# Altium footprint library PcbLib1.PcbLib: 4 footprints
Each footprint in its own frame and in the unit in brackets; x right, y up, seen from the top. Pads: shape width x height; smd on the part's side, far side on the other; paste and mask are expansions set on the pad; w line width, h text height; cw(c..) or ccw(c..) is an arc to the next point about the centre after c.
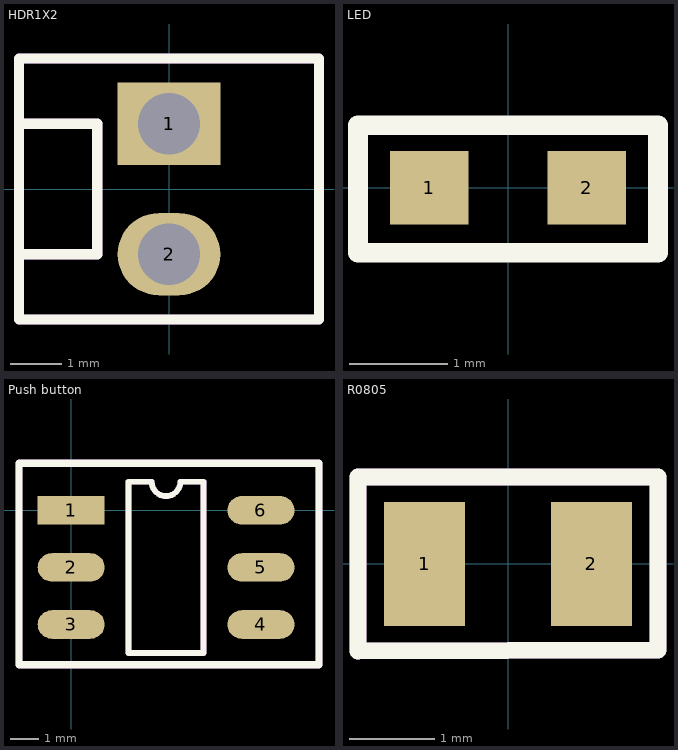
[diagram p0: the footprints below, top view; thin cyan lines are the x and y axes]

## HDR1X2 [mm]
pads (2):
  rect 2x1.6 hole 1.2: 1(0,1.27)
  oval 2x1.6 hole 1.2: 2(0,-1.27)
Top Overlay:
  lines w0.2: -2.921,-1.27 -1.397,-1.27 -1.397,1.27 -2.921,1.27 ; -2.921,-2.54 -2.921,2.54 2.921,2.54 2.921,-2.54 -2.921,-2.54
Mechanical 29:
  lines w0.2: -2.921,-1.27 -1.397,-1.27 -1.397,1.27 -2.921,1.27 ; -2.921,-2.54 -2.921,2.54 2.921,2.54 2.921,-2.54 -2.921,-2.54
  text ".Designator" at -4.14,3.2 h1.52
3D body "022292021.stp": height 11.9, standoff -3.36, extent -2.9,-2.54 2.9,2.54

## LED [mm]
pads (2):
  rect 0.8x0.75 smd: 1(-0.8,0) 2(0.8,0)
Top Overlay:
  lines w0.2: -1.524,-0.66 -1.524,0.635 1.524,0.635 1.524,-0.66 -1.524,-0.66
3D body "Download_STP_WL-WL-SMCD-0603_rev1.stp": height 0.4, standoff 0, extent -0.8,-0.4 0.8,0.4

## Push button [mm]
pads (6):
  rect 2.35x1 smd: 1(0,0)
  oval 2.35x1 smd: 2(0,-2) 3(0,-4) 4(6.65,-4) 5(6.65,-2) 6(6.65,0)
Top Overlay:
  lines w0.2: 2.01,-5 4.64,-5 4.64,1 3.825,1 cw(c3.325,1) 2.825,1 2.01,1 2.01,-5
  lines w0.254: -1.829,-5.41 8.687,-5.41 8.687,1.651 -1.829,1.651 -1.829,-5.41
Mechanical 29:
  lines w0.2: 2.01,-5 4.64,-5 4.64,1 3.825,1 cw(c3.325,1) 2.825,1 2.01,1 2.01,-5
  lines w0.254: -1.829,-5.41 8.687,-5.41 8.687,1.651 -1.829,1.651 -1.829,-5.41
  text ".Designator" at -2.845,2.591 h1.52
3D body "TL2233OA.stp": height 7.9, standoff 0, extent -0.622,-4.881 7.378,0.919

## R0805 [mm]
pads (2):
  rect 0.95x1.45 smd: 1(-0.975,0) 2(0.975,0)
Top Overlay:
  lines w0.2: -1.753,-1.018 1.753,-1.008 ; -1.753,-1.018 -1.753,1.016 ; -1.753,-1.018 1.753,-1.008 ; -1.753,-1.018 -1.753,1.016 ; -1.753,-1.018 1.753,-1.008 ; -1.753,-1.018 1.753,-1.008 ; -1.753,-1.018 -1.753,1.016 ; -1.753,1.016 1.753,1.016 ; -1.753,1.016 1.753,1.016 ; -1.753,1.016 1.753,1.016 ; 1.753,-1.008 1.753,1.016 ; 1.753,-1.008 1.753,1.016 ; 1.753,-1.008 1.753,1.016
Mechanical 29:
  lines w0.2: -1.753,-1.018 1.753,-1.008 ; -1.753,-1.018 -1.753,1.016 ; -1.753,-1.018 1.753,-1.008 ; -1.753,-1.018 -1.753,1.016 ; -1.753,-1.018 1.753,-1.008 ; -1.753,-1.018 1.753,-1.008 ; -1.753,-1.018 -1.753,1.016 ; -1.753,1.016 1.753,1.016 ; -1.753,1.016 1.753,1.016 ; -1.753,1.016 1.753,1.016 ; 1.753,-1.008 1.753,1.016 ; 1.753,-1.008 1.753,1.016 ; 1.753,-1.008 1.753,1.016
  text ".Designator" at -5.639,1.879 h1.52
3D body "User Library-CR2012-0805.step": height 0.6, standoff 0, extent -1,-0.625 1,0.625